# Altium footprint library DE2E3KY332MA3BM02F.PcbLib: 1 footprints
Each footprint in its own frame and in the unit in brackets; x right, y up, seen from the top. Pads: shape width x height; smd on the part's side, far side on the other; paste and mask are expansions set on the pad; w line width, h text height; cw(c..) or ccw(c..) is an arc to the next point about the centre after c.
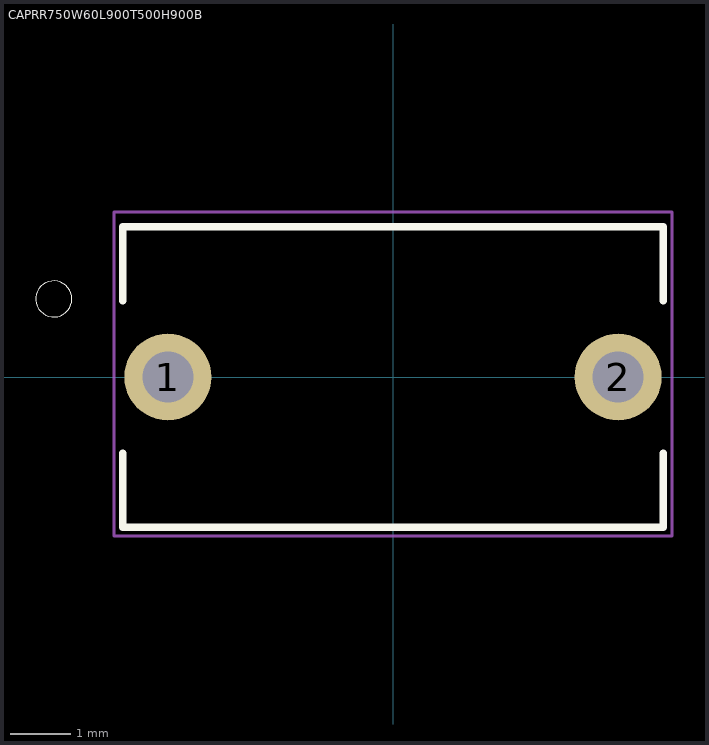
[diagram p0: the footprint, top view; thin cyan lines are the x and y axes]

## CAPRR750W60L900T500H900B [mm]
pads (2):
  round 1.45 hole 0.85: 1(-3.75,0) 2(3.75,0)
Top Overlay:
  circle w0: c-5.65,1.3 r0.3
  lines w0.127: -4.5,-1.27 -4.5,-2.5 4.5,-2.5 4.5,-1.27 ; -4.5,1.27 -4.5,2.5 4.5,2.5 4.5,1.27
Mechanical 15:
  lines w0.05: -4.65,-2.65 -4.65,2.75 4.65,2.75 4.65,-2.65 -4.65,-2.65
3D body "step_temp.STEP": height 9, standoff -25, extent -4.08,-2.997 4.08,2.997